# Altium schematic symbol library res.SchLib: 5 symbols
Pins are listed as number, name and electrical type; pins without a type are passive.

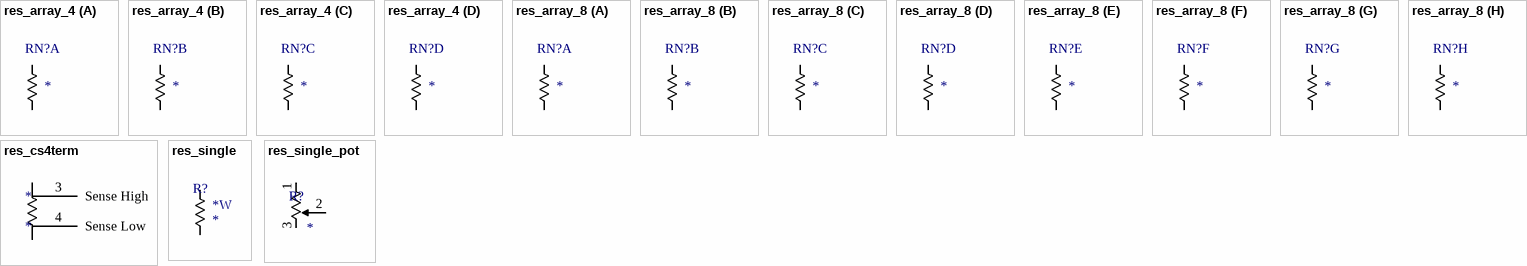
[diagram p0: symbols res_array_4 to res_single_pot]

## res_array_4
designator RN?
Resistor Network, 4 elements; Power Rating: *W; Manufacturer PN: *; Resistance: *
part A pins: 1, 8
part B pins: 2, 7
part C pins: 3, 6
part D pins: 4, 5

## res_array_8
designator RN?
Resistor Network, 8 elements; Power Rating: *W; Manufacturer PN: *; Resistance: *
part A pins: 1, 16
part B pins: 2, 15
part C pins: 3, 14
part D pins: 4, 13
part E pins: 5, 12
part F pins: 6, 11
part G pins: 7, 10
part H pins: 8, 9

## res_cs4term
designator *
footprint CHIP_4026_CS_BOURNS
pins: 1, 2, 3 Sense High, 4 Sense Low

## res_single
designator R?  Power Rating: *W  (hidden comment: *)
Tolerance: *%; Resistance: *
footprint chip_0201
footprint chip_0402
footprint chip_0603
footprint chip_0805
footprint chip_1206
footprint chip_1210
footprint chip_1812
footprint chip_2010
footprint chip_2512
pins: 1, 2

## res_single_pot
designator R?
Resistance: *
pins: 1, 2, 3